# Altium integrated library MTMM-107-03-G-D-190.IntLib: 1 symbol
Pins are listed as number, name and electrical type; pins without a type are passive.

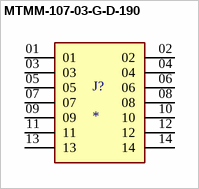
[diagram p0: symbol MTMM-107-03-G-D-190]

## MTMM-107-03-G-D-190
designator J?
MP: MTMM-107-03-G-D-190; Price: None; Availability: Unavailable; Value: *; Package: None
footprint SAMTEC_MTMM-107-03-G-D-190
pins: 01, 02, 03, 04, 05, 06, 07, 08, 09, 10, 11, 12, 13, 14